# Altium schematic symbol library Custom.SchLib: 1 symbol
Pins are listed as number, name and electrical type; pins without a type are passive.

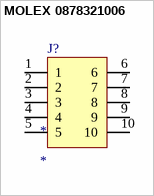
[diagram p0: symbol MOLEX 0878321006]

## MOLEX 0878321006
designator *
footprint MOLEX 0878321006
pins: 1, 2, 3, 4, 5, 6, 7, 8, 9, 10
text: J?